# EAGLE library part LTC4412* (library linear-technology-3)
Low Loss PowerPath Controller
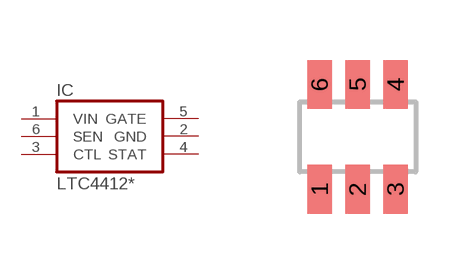
[diagram p26: symbol with the pads of TSOT23-6; footprint TSOT23-6]

Designator prefix IC

## LTC4412ES6  [TSOT23-6]
1  VIN  in
2  GND  pas
3  CTL  in
4  STAT  oc
5  GATE  out
6  SEN  in

## Footprint TSOT23-6 (pad centres in mm)
smd 0.622 x 1.22: 1 -0.95,-1.31; 2 0,-1.31; 3 0.95,-1.31; 4 0.95,1.31; 5 0,1.31; 6 -0.95,1.31